# Altium schematic symbol library SCH - MCU - TI - TI MSPM0G150X VQFN-32 RHB.SchLib: 1 symbol
Pins are listed as number, name and electrical type; pins without a type are passive.

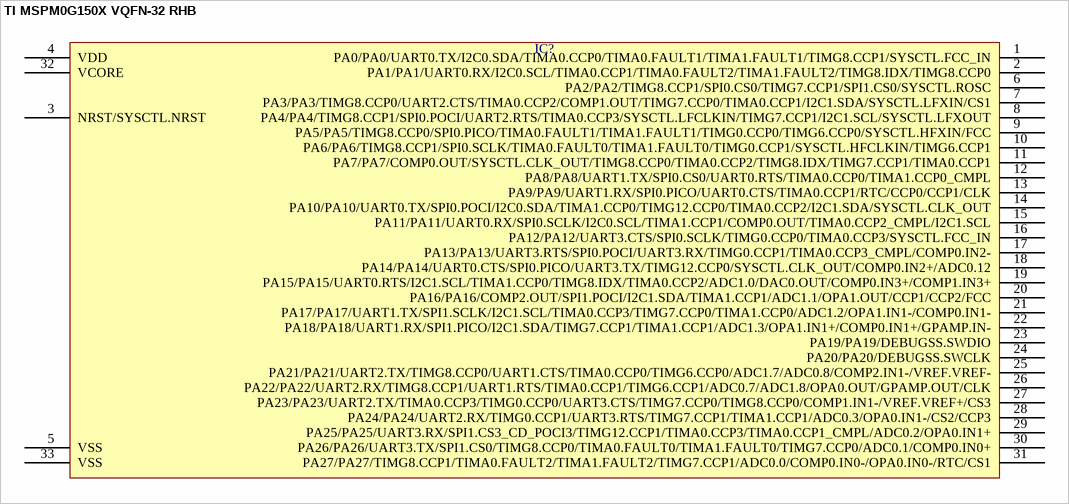
[diagram p0: symbol TI MSPM0G150X VQFN-32 RHB]

## TI MSPM0G150X VQFN-32 RHB
designator IC?  (value not drawn)
pins: 1 PA0/PA0/UART0.TX/I2C0.SDA/TIMA0.CCP0/TIMA0.FAULT1/TIMA1.FAULT1/TIMG8.CCP1/SYSCTL.FCC_IN, 2 PA1/PA1/UART0.RX/I2C0.SCL/TIMA0.CCP1/TIMA0.FAULT2/TIMA1.FAULT2/TIMG8.IDX/TIMG8.CCP0, 3 NRST/SYSCTL.NRST, 4 VDD, 5 VSS, 6 PA2/PA2/TIMG8.CCP1/SPI0.CS0/TIMG7.CCP1/SPI1.CS0/SYSCTL.ROSC, 7 PA3/PA3/TIMG8.CCP0/UART2.CTS/TIMA0.CCP2/COMP1.OUT/TIMG7.CCP0/TIMA0.CCP1/I2C1.SDA/SYSCTL.LFXIN/CS1, 8 PA4/PA4/TIMG8.CCP1/SPI0.POCI/UART2.RTS/TIMA0.CCP3/SYSCTL.LFCLKIN/TIMG7.CCP1/I2C1.SCL/SYSCTL.LFXOUT, 9 PA5/PA5/TIMG8.CCP0/SPI0.PICO/TIMA0.FAULT1/TIMA1.FAULT1/TIMG0.CCP0/TIMG6.CCP0/SYSCTL.HFXIN/FCC, 10 PA6/PA6/TIMG8.CCP1/SPI0.SCLK/TIMA0.FAULT0/TIMA1.FAULT0/TIMG0.CCP1/SYSCTL.HFCLKIN/TIMG6.CCP1, 11 PA7/PA7/COMP0.OUT/SYSCTL.CLK_OUT/TIMG8.CCP0/TIMA0.CCP2/TIMG8.IDX/TIMG7.CCP1/TIMA0.CCP1, 12 PA8/PA8/UART1.TX/SPI0.CS0/UART0.RTS/TIMA0.CCP0/TIMA1.CCP0_CMPL, 13 PA9/PA9/UART1.RX/SPI0.PICO/UART0.CTS/TIMA0.CCP1/RTC/CCP0/CCP1/CLK, 14 PA10/PA10/UART0.TX/SPI0.POCI/I2C0.SDA/TIMA1.CCP0/TIMG12.CCP0/TIMA0.CCP2/I2C1.SDA/SYSCTL.CLK_OUT, 15 PA11/PA11/UART0.RX/SPI0.SCLK/I2C0.SCL/TIMA1.CCP1/COMP0.OUT/TIMA0.CCP2_CMPL/I2C1.SCL, 16 PA12/PA12/UART3.CTS/SPI0.SCLK/TIMG0.CCP0/TIMA0.CCP3/SYSCTL.FCC_IN, 17 PA13/PA13/UART3.RTS/SPI0.POCI/UART3.RX/TIMG0.CCP1/TIMA0.CCP3_CMPL/COMP0.IN2-, 18 PA14/PA14/UART0.CTS/SPI0.PICO/UART3.TX/TIMG12.CCP0/SYSCTL.CLK_OUT/COMP0.IN2+/ADC0.12, 19 PA15/PA15/UART0.RTS/I2C1.SCL/TIMA1.CCP0/TIMG8.IDX/TIMA0.CCP2/ADC1.0/DAC0.OUT/COMP0.IN3+/COMP1.IN3+, 20 PA16/PA16/COMP2.OUT/SPI1.POCI/I2C1.SDA/TIMA1.CCP1/ADC1.1/OPA1.OUT/CCP1/CCP2/FCC, 21 PA17/PA17/UART1.TX/SPI1.SCLK/I2C1.SCL/TIMA0.CCP3/TIMG7.CCP0/TIMA1.CCP0/ADC1.2/OPA1.IN1-/COMP0.IN1-, 22 PA18/PA18/UART1.RX/SPI1.PICO/I2C1.SDA/TIMG7.CCP1/TIMA1.CCP1/ADC1.3/OPA1.IN1+/COMP0.IN1+/GPAMP.IN-, 23 PA19/PA19/DEBUGSS.SWDIO, 24 PA20/PA20/DEBUGSS.SWCLK, 25 PA21/PA21/UART2.TX/TIMG8.CCP0/UART1.CTS/TIMA0.CCP0/TIMG6.CCP0/ADC1.7/ADC0.8/COMP2.IN1-/VREF.VREF-, 26 PA22/PA22/UART2.RX/TIMG8.CCP1/UART1.RTS/TIMA0.CCP1/TIMG6.CCP1/ADC0.7/ADC1.8/OPA0.OUT/GPAMP.OUT/CLK, 27 PA23/PA23/UART2.TX/TIMA0.CCP3/TIMG0.CCP0/UART3.CTS/TIMG7.CCP0/TIMG8.CCP0/COMP1.IN1-/VREF.VREF+/CS3, 28 PA24/PA24/UART2.RX/TIMG0.CCP1/UART3.RTS/TIMG7.CCP1/TIMA1.CCP1/ADC0.3/OPA0.IN1-/CS2/CCP3, 29 PA25/PA25/UART3.RX/SPI1.CS3_CD_POCI3/TIMG12.CCP1/TIMA0.CCP3/TIMA0.CCP1_CMPL/ADC0.2/OPA0.IN1+, 30 PA26/PA26/UART3.TX/SPI1.CS0/TIMG8.CCP0/TIMA0.FAULT0/TIMA1.FAULT0/TIMG7.CCP0/ADC0.1/COMP0.IN0+, 31 PA27/PA27/TIMG8.CCP1/TIMA0.FAULT2/TIMA1.FAULT2/TIMG7.CCP1/ADC0.0/COMP0.IN0-/OPA0.IN0-/RTC/CS1, 32 VCORE, 33 VSS